# Altium schematic symbol library Schlib.SchLib: 2 symbols
Pins are listed as number, name and electrical type; pins without a type are passive.

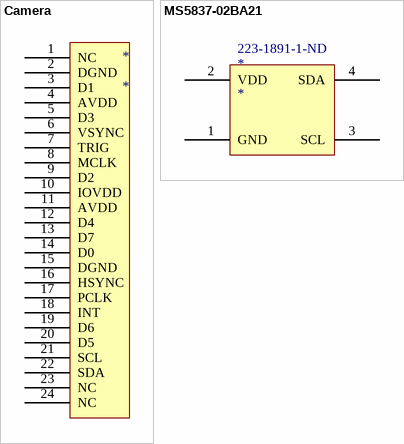
[diagram p0: symbols Camera to MS5837-02BA21]

## Camera
designator *
pins: 1 NC, 2 DGND, 3 D1, 4 AVDD, 5 D3, 6 VSYNC, 7 TRIG, 8 MCLK, 9 D2, 10 IOVDD, 11 AVDD, 12 D4, 13 D7, 14 D0, 15 DGND, 16 HSYNC, 17 PCLK, 18 INT, 19 D6, 20 D5, 21 SCL, 22 SDA, 23 NC, 24 NC

## MS5837-02BA21
designator *  Supplier Part Number 1: 223-1891-1-ND
Pressure Sensor, Absolute, 2Bar, I2C; Manufacturer: TE Connectivity; Manufacturer Part Number: MS5837-02BA21; Operating Pressure: 17.4PSI; Port Style: No Port; Max Pressure: 145.04PSI; Supplier 1: Digi-Key; RoHS: No; Stock 1: 5173; Pricing 1: 1=12.98000, 5=11.38800, 10=10.24900, 25=9.11040, 50=8.42700, 100=7.28820, 500=6.83264, 1000=6.37714 (USD); Case/Package: SMD/SMT; Min Operating Temperature: -20°C; Max Operating Temperature: 85°C; Output Type: I2C; Pressure Type: Absolute; Termination: SMD/SMT; RoHS Compliant: Yes; ComponentLink1URL: https://www.te.com/commerce/DocumentDelivery/DDEController?Action=srchrtrv&amp;DocNm=MS5837-02BA01&amp;DocType=DS&amp;DocLang=English&src-supplier=Digi-Key; ComponentLink1Description: https://www.te.com/commerce/DocumentDelivery/DDEController?Action=srchrtrv&amp;DocNm=MS5837-02BA01&amp;DocType=DS&amp;DocLang=English&src-supplier=Digi-Key
pins: 1 GND, 2 VDD, 3 SCL, 4 SDA